# Altium footprint library CustomizedLib.PcbLib: 19 footprints (part 1 of 2)
Each footprint in its own frame and in the unit in brackets; x right, y up, seen from the top. Pads: shape width x height; smd on the part's side, far side on the other; paste and mask are expansions set on the pad; w line width, h text height; cw(c..) or ccw(c..) is an arc to the next point about the centre after c.
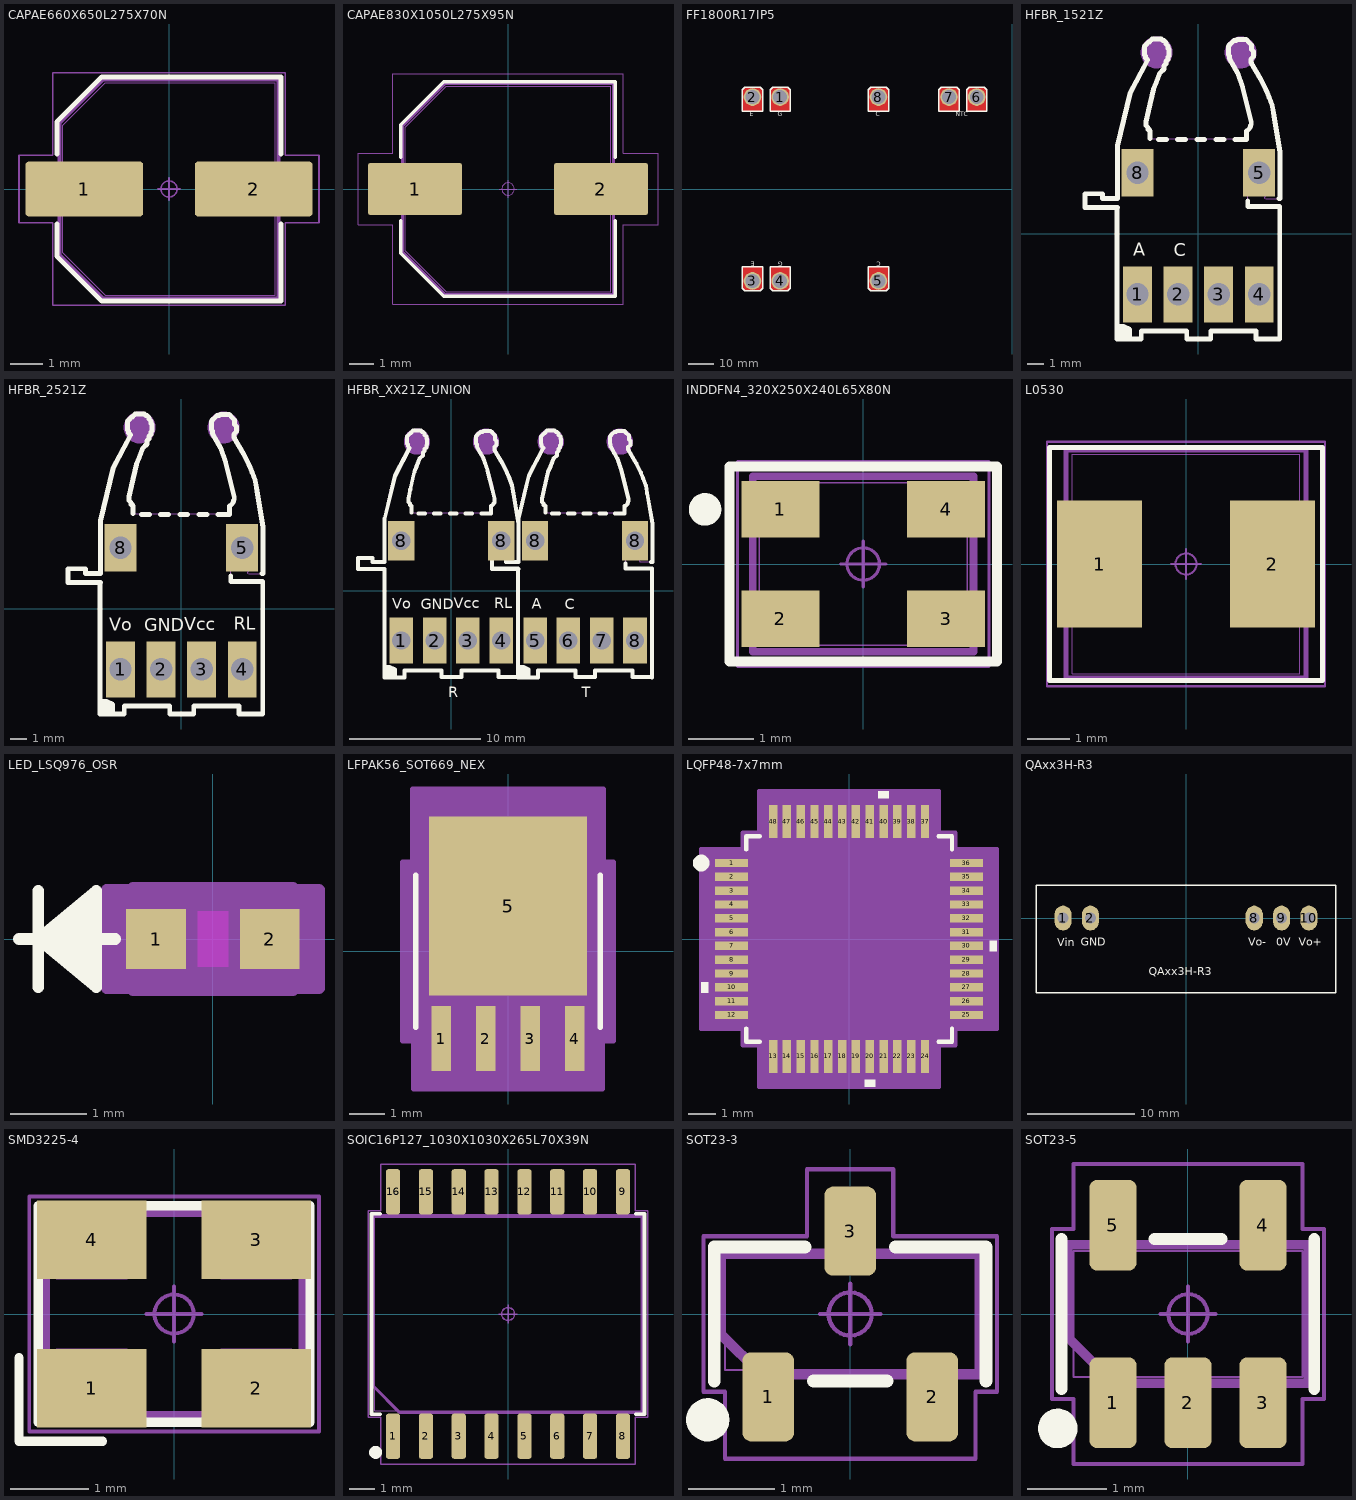
[diagram p0: the footprints below, top view; thin cyan lines are the x and y axes]

## CAPAE660X650L275X70N [mm] "Capacitor, Aluminum Electrolytic; 6.60 mm L X 6.60 mm W X 6.50 mm H body"
height 6.5
pads (2):
  rrect12% 3.65x1.7 smd: 1(-2.625,0) 2(2.625,0)
Top Overlay:
  lines w0.15: -3.475,-1.075 -3.475,-2.085 -2.085,-3.475 3.475,-3.475 3.475,-1.075 ; -3.475,1.075 -3.475,2.085 -2.085,3.475 3.475,3.475 3.475,1.075
Mechanical 9:
  lines w0.12: -3.4,-2.04 -2.04,-3.4 3.4,-3.4 3.4,3.4 -2.04,3.4 -3.4,2.04 -3.4,-2.04
Mechanical 15:
  lines w0.05: -4.65,-1.05 -4.65,1.05 -3.6,1.05 -3.6,3.6 3.6,3.6 3.6,1.05 4.65,1.05 4.65,-1.05 3.6,-1.05 3.6,-3.6 -3.6,-3.6 -3.6,-1.05 -4.65,-1.05
Mechanical 17:
  circle w0.05: c0,0 r0.25
  lines w0.05: -0.35,0 0.35,0 ; 0,-0.35 0,0.35
Mechanical 21:
  lines w0.025: -3.65,-0.35 -0.9,-0.35 -0.9,0.35 -3.65,0.35 -3.65,-0.35 ; -3.3,-1.98 -1.98,-3.3 3.3,-3.3 3.3,3.3 -1.98,3.3 -3.3,1.98 -3.3,-1.98 ; 0.9,-0.35 0.9,0.35 3.65,0.35 3.65,-0.35 0.9,-0.35
3D body "CAPAE660X650L275X70.STEP": height 6.5, standoff 0, extent -3.65,-3.3 3.65,3.3

## CAPAE830X1050L275X95N [mm] "Capacitor, Aluminum Electrolytic; 8.30 mm L X 8.30 mm W X 10.50 mm H body"
height 10.5
pads (2):
  rrect10% 3.8x2.1 smd: 1(-3.75,0) 2(3.75,0)
Top Overlay:
  lines w0.15: -4.325,-1.275 -4.325,-2.595 -2.595,-4.325 4.325,-4.325 4.325,-1.275 ; -4.325,1.275 -4.325,2.595 -2.595,4.325 4.325,4.325 4.325,1.275
Mechanical 9:
  lines w0.12: -4.25,-2.55 -4.25,2.55 -2.55,4.25 4.25,4.25 4.25,-4.25 -2.55,-4.25 -4.25,-2.55
Mechanical 15:
  lines w0.05: -6.05,-1.45 -4.65,-1.45 -4.65,-4.65 4.65,-4.65 4.65,-1.45 6.05,-1.45 6.05,1.45 4.65,1.45 4.65,4.65 -4.65,4.65 -4.65,1.45 -6.05,1.45 -6.05,-1.45
Mechanical 17:
  circle w0.05: c0,0 r0.25
  lines w0.05: -0.35,0 0.35,0 ; 0,-0.35 0,0.35
Mechanical 21:
  lines w0.025: -4.65,-0.475 -4.65,0.475 -1.9,0.475 -1.9,-0.475 -4.65,-0.475 ; -4.15,-2.49 -4.15,2.49 -2.49,4.15 4.15,4.15 4.15,-4.15 -2.49,-4.15 -4.15,-2.49 ; 1.9,-0.475 4.65,-0.475 4.65,0.475 1.9,0.475 1.9,-0.475
3D body "CAPAE830X1050L275X95.STEP": height 10.5, standoff 0, extent -4.7,-4.15 4.7,4.15

## FF1800R17IP5 [mm]
pads (8):
  round 7 hole 5.5: 1(-92,36.5) 2(-103,36.5) 3(-103,-36.5) 4(-92,-36.5) 5(-53,-36.5) 6(-14,36.5) 7(-25,36.5) 8(-53,36.5)
Top Layer:
  region: -49,39.386 -49,30.9 -57,30.9 -57,39.386 -56,40.386 -50,40.386
  region: -88,39.386 -88,30.9 -96,30.9 -96,39.386 -95,40.386 -89,40.386
  region: -99,-39.386 -99,-30.9 -107,-30.9 -107,-39.386 -106,-40.386 -100,-40.386
  region: -88,-39.386 -88,-30.9 -96,-30.9 -96,-39.386 -95,-40.386 -89,-40.386
  region: -49,-39.386 -49,-30.9 -57,-30.9 -57,-39.386 -56,-40.386 -50,-40.386
  region: -10,39.386 -10,30.9 -18,30.9 -18,39.386 -17,40.386 -11,40.386
  region: -21,39.386 -21,30.9 -29,30.9 -29,39.386 -28,40.386 -22,40.386
  region: -99,39.386 -99,30.9 -107,30.9 -107,39.386 -106,40.386 -100,40.386
Bottom Layer:
  region: -99,-39.386 -99,-30.9 -107,-30.9 -107,-39.386 -106,-40.386 -100,-40.386
  region: -88,-39.386 -88,-30.9 -96,-30.9 -96,-39.386 -95,-40.386 -89,-40.386
  region: -49,-39.386 -49,-30.9 -57,-30.9 -57,-39.386 -56,-40.386 -50,-40.386
  region: -10,39.386 -10,30.9 -18,30.9 -18,39.386 -17,40.386 -11,40.386
  region: -21,39.386 -21,30.9 -29,30.9 -29,39.386 -28,40.386 -22,40.386
  region: -49,39.386 -49,30.9 -57,30.9 -57,39.386 -56,40.386 -50,40.386
  region: -99,39.386 -99,30.9 -107,30.9 -107,39.386 -106,40.386 -100,40.386
  region: -88,39.386 -88,30.9 -96,30.9 -96,39.386 -95,40.386 -89,40.386
Top Overlay:
  lines w0.508: -107,-39.4 -107,-30.9 -99,-30.9 -99,-39.4 -100,-40.4 -106,-40.4 -107,-39.4 ; -107,30.9 -107,39.4 -106,40.4 -100,40.4 -99,39.4 -99,30.9 -107,30.9 ; -96,-39.4 -96,-30.9 -88,-30.9 -88,-39.4 -89,-40.4 -95,-40.4 -96,-39.4 ; -96,30.9 -96,39.4 -95,40.4 -89,40.4 -88,39.4 -88,30.9 -96,30.9 ; -57,-39.4 -57,-30.9 -49,-30.9 -49,-39.4 -50,-40.4 -56,-40.4 -57,-39.4 ; -57,30.9 -57,39.4 -56,40.4 -50,40.4 -49,39.4 -49,30.9 -57,30.9 ; -29,30.9 -29,39.4 -28,40.4 -22,40.4 -21,39.4 -21,30.9 -29,30.9 ; -18,30.9 -18,39.4 -17,40.4 -11,40.4 -10,39.4 -10,30.9 -18,30.9
  text "NTC" at -22.311,28.305 h3.05
  text "C" at -54.001,28.305 h3.05
  text "E" at -104.001,28.305 h3.05
  text "G" at -93.001,28.305 h3.05
  text "C" at -51.999,-28.305 h3.05
  text "G" at -90.999,-28.305 h3.05
  text "E" at -101.999,-28.305 h3.05
Bottom Overlay:
  lines w0.508: -44.947,-16.897 -125,-16.897 -125,16.896 -5.953,16.896 ; -110.031,-42.738 -110.031,-25.367 -84.969,-25.367 -84.969,-42.738 -110.031,-42.738 ; -110.031,25.367 -110.031,42.738 -84.969,42.738 -84.969,25.367 -110.031,25.367 ; -60.037,-42.738 -60.037,-25.367 -45.963,-25.367 -45.963,-42.738 -60.037,-42.738 ; -60.037,25.367 -60.037,42.738 -45.963,42.738 -45.963,25.367 -60.037,25.367 ; -32.031,25.367 -6.969,25.367 -6.969,42.738 -32.031,42.738 -32.031,25.367
Bottom Solder:
  region: -99,-39.386 -99,-30.9 -107,-30.9 -107,-39.386 -106,-40.386 -100,-40.386
  region: -88,-39.386 -88,-30.9 -96,-30.9 -96,-39.386 -95,-40.386 -89,-40.386
  region: -49,-39.386 -49,-30.9 -57,-30.9 -57,-39.386 -56,-40.386 -50,-40.386
  region: -10,39.386 -10,30.9 -18,30.9 -18,39.386 -17,40.386 -11,40.386
  region: -21,39.386 -21,30.9 -29,30.9 -29,39.386 -28,40.386 -22,40.386
  region: -49,39.386 -49,30.9 -57,30.9 -57,39.386 -56,40.386 -50,40.386
  region: -88,39.386 -88,30.9 -96,30.9 -96,39.386 -95,40.386 -89,40.386
  region: -99,39.386 -99,30.9 -107,30.9 -107,39.386 -106,40.386 -100,40.386
3D body "infineon-primepack-3plus-3d-model-pcbdesigndata-en.stp": height 12.15, standoff -26.1, extent -124.968,-45.262 125.08,43.738

## HFBR_1521Z [mm]
pads (6):
  rect 1.801x3.5 hole 1.402: 1(-3.81,-3.81) 2(-1.27,-3.81) 3(1.27,-3.81) 4(3.81,-3.81)
  rect 1.999x3 hole 1.402: 5(3.81,3.81) 8(-3.81,3.81)
Top Overlay:
  lines w0.305: -5.1,-5.809 -4.699,-5.809 -4.3,-6.01 -4.3,-6.609 ; -5.1,1.635 -5.1,0.79 -5.1,-2.108 -5.1,-5.309 -5.1,-6.609 -3.575,-6.609 -3.575,-6.105 -0.726,-6.105 -0.726,-6.604 0.775,-6.604 0.775,-6.108 3.621,-6.108 3.621,-6.603 5.1,-6.603 ; -5.072,1.635 -7.104,1.635 -7.108,1.639 -7.108,2.494 -6.015,2.494 -6.015,2.194 -5.071,2.194 -5.071,5.496 -4.29,8.75 -3.185,10.862 -3.185,10.886 -3.307,11.008 -3.307,11.126 -3.377,11.196 -3.377,11.398 -3.377,11.619 -3.377,11.733 -3.293,11.817 -3.293,11.821 -3.1,12.014 -3.068,12.014 -2.898,12.184 -2.535,12.184 -2.314,12.184 -2.22,12.09 -2.15,12.09 -2.023,11.963 -2.023,11.869 -1.891,11.737 -1.891,11.609 -1.835,11.553 -1.835,11.299 -1.835,11.134 -1.905,11.064 -1.905,10.918 -2.032,10.791 -2.032,10.636 -2.154,10.514 -2.154,10.312 -2.413,10.053 -2.64,9.459 -2.818,9.034 -3.125,7.706 -3.274,6.996 -3.274,6.789 -3.274,6.755 -3.154,6.635 -3.154,6.522 -3.094,6.522 -3.02,6.448 -3.02,5.954 ; -4.9,-6.51 -4.9,-6.01 ; -4.6,-6.408 -4.6,-6.01 ; -2.504,5.89 -2.004,5.89 ; -1.303,5.89 -0.803,5.89 ; -0.104,5.89 0.396,5.89 ; 1.097,5.89 1.598,5.89 ; 2.299,5.89 2.799,5.89 3.02,5.89 3.02,6.447 3.074,6.447 3.225,6.598 3.225,6.651 3.279,6.705 3.279,6.783 3.315,6.819 3.315,6.968 2.779,9.144 2.463,10.052 2.218,10.48 1.945,10.998 1.945,11.149 1.889,11.205 1.889,11.407 1.889,11.6 1.889,11.741 1.964,11.816 1.964,11.844 2.082,11.962 2.105,11.962 2.246,12.103 2.373,12.103 2.444,12.174 2.768,12.174 3.004,12.174 3.098,12.08 3.098,12.056 3.342,11.812 3.342,11.525 3.45,11.417 3.45,11.177 3.45,11.087 3.29,10.927 3.29,10.739 ; 3.097,2.053 3.097,1.692 5.1,1.692 5.1,0.79 5.1,-2.108 5.1,-5.309 5.1,-6.609 ; 3.342,10.687 3.29,10.739 ; 5.036,2.19 5.125,2.19 5.125,5.09 4.739,7.382 4.632,8.016 4.434,8.534 4.247,8.985 3.908,9.679 3.29,10.739
  text "A" at -4.077,-1.398 h0.8
  text "C" at -1.537,-1.414 h0.8
Mechanical 6:
  circle w1: c2.645,11.353 r0.5
  circle w1: c-2.616,11.354 r0.5
Mechanical 15:
  drawing of 141 lines, arcs and shapes, not listed
3D body "HFBR-2521Z.STEP": height 7.62, standoff -3.81, extent -7.112,-6.528 5.08,12.267

## HFBR_2521Z [mm]
pads (6):
  rect 1.801x3.5 hole 1.402: 1(-3.81,-3.81) 2(-1.27,-3.81) 3(1.27,-3.81) 4(3.81,-3.81)
  rect 1.999x3 hole 1.402: 5(3.81,3.81) 8(-3.81,3.81)
Top Overlay:
  lines w0.305: -5.1,-5.809 -4.699,-5.809 -4.3,-6.01 -4.3,-6.609 ; -5.1,1.635 -5.1,0.79 -5.1,-2.108 -5.1,-5.309 -5.1,-6.609 -3.575,-6.609 -3.575,-6.105 -0.726,-6.105 -0.726,-6.604 0.775,-6.604 0.775,-6.108 3.621,-6.108 3.621,-6.603 5.1,-6.603 ; -5.072,1.635 -7.104,1.635 -7.108,1.639 -7.108,2.494 -6.015,2.494 -6.015,2.194 -5.071,2.194 -5.071,5.496 -4.29,8.75 -3.185,10.862 -3.185,10.886 -3.307,11.008 -3.307,11.126 -3.377,11.196 -3.377,11.398 -3.377,11.619 -3.377,11.733 -3.293,11.817 -3.293,11.821 -3.1,12.014 -3.068,12.014 -2.898,12.184 -2.535,12.184 -2.314,12.184 -2.22,12.09 -2.15,12.09 -2.023,11.963 -2.023,11.869 -1.891,11.737 -1.891,11.609 -1.835,11.553 -1.835,11.299 -1.835,11.134 -1.905,11.064 -1.905,10.918 -2.032,10.791 -2.032,10.636 -2.154,10.514 -2.154,10.312 -2.413,10.053 -2.64,9.459 -2.818,9.034 -3.125,7.706 -3.274,6.996 -3.274,6.789 -3.274,6.755 -3.154,6.635 -3.154,6.522 -3.094,6.522 -3.02,6.448 -3.02,5.954 ; -4.9,-6.51 -4.9,-6.01 ; -4.6,-6.408 -4.6,-6.01 ; -2.504,5.89 -2.004,5.89 ; -1.303,5.89 -0.803,5.89 ; -0.104,5.89 0.396,5.89 ; 1.097,5.89 1.598,5.89 ; 2.299,5.89 2.799,5.89 3.02,5.89 3.02,6.447 3.074,6.447 3.225,6.598 3.225,6.651 3.279,6.705 3.279,6.783 3.315,6.819 3.315,6.968 2.779,9.144 2.463,10.052 2.218,10.48 1.945,10.998 1.945,11.149 1.889,11.205 1.889,11.407 1.889,11.6 1.889,11.741 1.964,11.816 1.964,11.844 2.082,11.962 2.105,11.962 2.246,12.103 2.373,12.103 2.444,12.174 2.768,12.174 3.004,12.174 3.098,12.08 3.098,12.056 3.342,11.812 3.342,11.525 3.45,11.417 3.45,11.177 3.45,11.087 3.29,10.927 3.29,10.739 ; 3.097,2.053 3.097,1.692 5.1,1.692 5.1,0.79 5.1,-2.108 5.1,-5.309 5.1,-6.609 ; 3.342,10.687 3.29,10.739 ; 5.036,2.19 5.125,2.19 5.125,5.09 4.739,7.382 4.632,8.016 4.434,8.534 4.247,8.985 3.908,9.679 3.29,10.739
  text "Vcc" at 0.176,-1.353 h0.8
  text "RL" at 3.292,-1.335 h0.8
  text "GND" at -2.324,-1.414 h0.8
  text "Vo" at -4.507,-1.398 h0.8
Mechanical 6:
  circle w1: c-2.616,11.354 r0.5
  circle w1: c2.645,11.353 r0.5
Mechanical 15:
  drawing of 141 lines, arcs and shapes, not listed
3D body "HFBR-2521Z.STEP": height 7.62, standoff -3.81, extent -7.112,-6.528 5.08,12.267

## HFBR_XX21Z_UNION [mm]
pads (12):
  rect 1.801x3.5 hole 1.402: 1(-3.81,-3.81) 2(-1.27,-3.81) 3(1.27,-3.81) 4(3.81,-3.81) 5(6.391,-3.81) 6(8.931,-3.81) 7(11.471,-3.81) 8(14.011,-3.81)
  rect 1.999x3 hole 1.402: 8(-3.81,3.81) 8(3.81,3.81) 8(6.391,3.81) 8(14.011,3.81)
Top Overlay:
  drawing of 248 lines, arcs and shapes, not listed
  text "T" at 9.959,-8.145 h0.8
  text "R" at -0.242,-8.145 h0.8
  text "Vcc" at 0.176,-1.353 h0.8
  text "RL" at 3.292,-1.335 h0.8
  text "GND" at -2.324,-1.414 h0.8
  text "Vo" at -4.507,-1.398 h0.8
  text "A" at 6.124,-1.398 h0.8
  text "C" at 8.664,-1.414 h0.8
Mechanical 6:
  circle w1: c-2.616,11.354 r0.5
  circle w1: c2.645,11.353 r0.5
  circle w1: c12.846,11.353 r0.5
  circle w1: c7.585,11.354 r0.5
Mechanical 15:
  drawing of 282 lines, arcs and shapes, not listed
3D body "HFBR-2521Z.STEP": height 7.62, standoff -3.81, extent -7.112,-6.528 5.08,12.267
3D body "HFBR-2521Z.STEP": height 7.62, standoff -3.81, extent 3.089,-6.528 15.281,12.267

## INDDFN4_320X250X240L65X80N [mm] "Inductor, Dual Flat No-Lead (DFN) 4 pins, 2.55 mm pitch; 3.20 mm L X 2.50 mm W X 2.40 mm H body"
height 2.4
pads (4):
  rect 1.2x0.87 smd: 1(-1.275,0.841) 2(-1.275,-0.841) 3(1.275,-0.841) 4(1.275,0.841)
Top Overlay:
  circle w0.25: c-2.435,0.841 r0.125
  lines w0.15: -2.06,-1.501 -2.06,1.501 2.06,1.501 2.06,-1.501 -2.06,-1.501
Mechanical 9:
  lines w0.12: -1.7,-1.35 -1.7,1.35 1.7,1.35 1.7,-1.35 -1.7,-1.35
Mechanical 15:
  lines w0.05: -1.935,-1.576 1.935,-1.576 1.935,1.576 -1.935,1.576 -1.935,-1.576
Mechanical 17:
  circle w0.05: c0,0 r0.25
  lines w0.05: -0.35,0 0.35,0 ; 0,-0.35 0,0.35
Mechanical 21:
  lines w0.025: -1.6,-1.25 -0.95,-1.25 -0.95,-0.45 -1.6,-0.45 -1.6,-1.25 ; -1.6,-1.25 -1.6,1.25 ; -1.6,-1.25 1.6,-1.25 ; -1.6,1.25 -1.6,0.45 -0.95,0.45 -0.95,1.25 -1.6,1.25 ; -1.6,1.25 1.6,1.25 ; 1.6,-1.25 1.6,-0.45 0.95,-0.45 0.95,-1.25 1.6,-1.25 ; 1.6,-1.25 1.6,1.25 ; 1.6,1.25 0.95,1.25 0.95,0.45 1.6,0.45 1.6,1.25
3D body "INDDFN4_320X250X240L65X80.STEP": height 2.4, standoff 0, extent -1.6,-1.25 1.6,1.25

## L0530 [mm] "Diode, Dual Flat No-Lead, 2 pin; 1.00 mm L X 0.60 mm W X 0.50 mm H body"
height 3
pads (2):
  rect 2.012x3.015 smd: 1(-2.05,0) 2(2.05,0)
Top Overlay:
  lines w0.12: -3.236,-2.76 -3.236,2.76 3.236,2.76 3.236,-2.76 -3.236,-2.76
Mechanical 11:
  lines w0.12: -2.85,-2.7 -2.85,2.7 2.85,2.7 2.85,-2.7 -2.85,-2.7
Mechanical 12:
  lines w0.025: -3,-1.4 -1.1,-1.4 -1.1,1.4 -3,1.4 -3,-1.4 ; -2.7,-2.6 -2.7,2.6 2.7,2.6 2.7,-2.6 -2.7,-2.6 ; 1.1,-1.4 1.1,1.4 3,1.4 3,-1.4 1.1,-1.4
Mechanical 15:
  circle w0.05: c0,0 r0.25
  lines w0.05: -0.35,0 0.35,0 ; 0,-0.35 0,0.35 ; -3.296,-2.9 3.296,-2.9 3.296,2.9 -3.296,2.9 -3.296,-2.9
3D body "INDDFN2_540X520X300L190X280.STEP": height 3, standoff 0, extent -3,-2.6 3,2.6

## LED_LSQ976_OSR [mil]
pads (2):
  rect 31x31 smd paste+0 mask+0: 1(-29.5,0) 2(29.5,0)
Top Layer keep-out:
  region: -8,-14.5 -8,14.5 8,14.5 8,-14.5
Top Overlay:
  lines w6: -100.63,0 -50.63,0 ; -90.63,-25 -90.63,25 ; -60.63,-20 -90.63,0 ; -60.63,-15 -90.63,0 ; -60.63,-10 -90.63,0 ; -60.63,-5 -90.63,0 ; -60.63,5 -90.63,0 ; -60.63,10 -90.63,0 ; -60.63,15 -90.63,0 ; -60.63,20 -90.63,0 ; -90.63,0 -60.63,25 -60.63,-25 -90.63,0
Mechanical 13:
  lines w1: -100.63,0 -50.63,0 ; -90.63,-25 -90.63,25 ; -60.63,-20 -90.63,0 ; -60.63,-15 -90.63,0 ; -60.63,-10 -90.63,0 ; -60.63,-5 -90.63,0 ; -60.63,5 -90.63,0 ; -60.63,10 -90.63,0 ; -60.63,15 -90.63,0 ; -60.63,20 -90.63,0 ; -90.63,0 -60.63,25 -60.63,-25 -90.63,0 ; -31.5,-16.5 -31.5,16.5 31.5,16.5 31.5,-16.5 -31.5,-16.5
Mechanical 15:
  region: -41.5,-25.5 -55,-25.5 -55,25.5 -41.5,25.5 -41.5,26.5 41.5,26.5 41.5,25.5 55,25.5 55,-25.5 41.5,-25.5 41.5,-26.5 -41.5,-26.5
  lines w6: -55,-25.5 -41.5,-25.5 -41.5,-26.5 41.5,-26.5 41.5,-25.5 55,-25.5 55,25.5 41.5,25.5 41.5,26.5 -41.5,26.5 -41.5,25.5 -55,25.5 -55,-25.5
3D body "LED_LSQ976_OSR.step": height 32.99, standoff 0, extent -31.5,-16.61 31.5,16.61

## LFPAK56_SOT669_NEX [mil]
pads (5):
  rect 22x73 smd paste+0 mask+0: 1(-75,-98) 2(-25,-98) 3(25,-98) 4(75,-98)
  rect 178x201 smd paste+0 mask+0: 5(0,51)
Top Overlay:
  lines w6: -103.5,-85.5 -103.5,85.5 ; 103.5,-85.5 103.5,85.5
Mechanical 13:
  lines w1: -98.5,-80.5 -98.5,80.5 98.5,80.5 98.5,-80.5 -98.5,-80.5 ; -85,-112.5 -65,-112.5 -65,-80.5 -85,-80.5 -85,-112.5 ; -35,-112.5 -15,-112.5 -15,-80.5 -35,-80.5 -35,-112.5 ; 15,-112.5 35,-112.5 35,-80.5 15,-80.5 15,-112.5 ; 65,-112.5 85,-112.5 85,-80.5 65,-80.5 65,-112.5
Mechanical 15:
  region: -118.5,-100.5 -118.5,100.5 -107,100.5 -107,182.5 107,182.5 107,100.5 118.5,100.5 118.5,-100.5 106,-100.5 106,-154.5 -106,-154.5 -106,-100.5
  lines w6: -118.5,-100.5 -106,-100.5 -106,-154.5 106,-154.5 106,-100.5 118.5,-100.5 118.5,100.5 107,100.5 107,182.5 -107,182.5 -107,100.5 -118.5,100.5 -118.5,-100.5
3D body "LFPAK56_SOT669_NEX.step": height 43.11, standoff -2.01, extent -98.5,-112.52 98.5,131.5

## LQFP48-7x7mm [mm]
pads (48):
  rect 1.194x0.305 smd paste+0 mask+0: 1(-4.25,2.75) 2(-4.25,2.25) 3(-4.25,1.75) 4(-4.25,1.25) 5(-4.25,0.75) 6(-4.25,0.25) 7(-4.25,-0.25) 8(-4.25,-0.75) 9(-4.25,-1.25) 10(-4.25,-1.75) 11(-4.25,-2.25) 12(-4.25,-2.75) 25(4.25,-2.75) 26(4.25,-2.25) 27(4.25,-1.75) 28(4.25,-1.25) 29(4.25,-0.75) 30(4.25,-0.25) 31(4.25,0.25) 32(4.25,0.75) 33(4.25,1.25) 34(4.25,1.75) 35(4.25,2.25) 36(4.25,2.75)
  rect 0.305x1.194 smd paste+0 mask+0: 13(-2.75,-4.25) 14(-2.25,-4.25) 15(-1.75,-4.25) 16(-1.25,-4.25) 17(-0.75,-4.25) 18(-0.25,-4.25) 19(0.25,-4.25) 20(0.75,-4.25) 21(1.25,-4.25) 22(1.75,-4.25) 23(2.25,-4.25) 24(2.75,-4.25) 37(2.75,4.25) 38(2.25,4.25) 39(1.75,4.25) 40(1.25,4.25) 41(0.75,4.25) 42(0.25,4.25) 43(-0.25,4.25) 44(-0.75,4.25) 45(-1.25,4.25) 46(-1.75,4.25) 47(-2.25,4.25) 48(-2.75,4.25)
Top Overlay:
  circle w0.305: c-5.351,2.75 r0.152
  region: -5.101,-1.559 -5.355,-1.559 -5.355,-1.94 -5.101,-1.94
  region: 0.941,-5.101 0.56,-5.101 0.56,-5.355 0.941,-5.355
  region: 5.101,-0.059 5.355,-0.059 5.355,-0.44 5.101,-0.44
  region: 1.441,5.101 1.06,5.101 1.06,5.355 1.441,5.355
  lines w0.152: -3.721,-3.235 -3.721,-3.721 -3.235,-3.721 ; -3.721,3.235 -3.721,3.721 -3.235,3.721 ; 3.235,-3.721 3.721,-3.721 3.721,-3.235 ; 3.235,3.721 3.721,3.721 3.721,3.235
Mechanical 13:
  circle w0: c-3.018,2.75 r0.076
  lines w0.025: -3.594,2.324 -2.324,3.594 ; -3.594,-3.594 3.594,-3.594 3.594,3.594 -3.594,3.594 -3.594,-3.594
Mechanical 15:
  region: -3.258,-3.848 -3.848,-3.848 -3.848,-3.258 -5.355,-3.258 -5.355,3.258 -3.848,3.258 -3.848,3.848 -3.258,3.848 -3.258,5.355 3.258,5.355 3.258,3.848 3.848,3.848 3.848,3.258 5.355,3.258 5.355,-3.258 3.848,-3.258 3.848,-3.848 3.258,-3.848 3.258,-5.355 -3.258,-5.355
  lines w0.152: -5.355,-3.258 -3.848,-3.258 -3.848,-3.848 -3.258,-3.848 -3.258,-5.355 3.258,-5.355 3.258,-3.848 3.848,-3.848 3.848,-3.258 5.355,-3.258 5.355,3.258 3.848,3.258 3.848,3.848 3.258,3.848 3.258,5.355 -3.258,5.355 -3.258,3.848 -3.848,3.848 -3.848,3.258 -5.355,3.258 -5.355,-3.258
3D body "LQFP48-7x7mm.step": height 1.6, standoff 0, extent -4.497,-4.497 4.497,4.497

## QAxx3H-R3 [mm] "(V1)"
pads (5):
  oval 1.6x2.3 hole 1: 1(-11.43,0) 2(-8.89,0) 8(6.35,0) 9(8.89,0) 10(11.43,0)
Top Overlay:
  lines w0.127: -13.95,-6.95 -13.95,3.05 13.95,3.05 13.95,-6.95 -13.95,-6.95
  text "Vo+" at 10.468,-2.581 h0.76
  text "0V" at 8.398,-2.581 h0.76
  text "Vo-" at 5.792,-2.581 h0.76
  text "GND" at -9.803,-2.581 h0.76
  text "QAxx3H-R3" at -3.485,-5.332 h0.76
  text "Vin" at -11.993,-2.617 h0.76
3D body "QAxxxHx-R3.stp": height 12.88, standoff -3.22, extent -13.703,-6.812 13.697,2.688

## SMD3225-4 [mm] "Diode, Dual Flat No-Lead, 0.75 mm Pitch, 4 pin; 1.20 mm L X 0.775 mm W X 0.40 mm H body"
height 0.9
pads (4):
  rect 1.4x1 smd: 1(-1.05,-0.95) 2(1.05,-0.95) 3(1.05,0.95) 4(-1.05,0.95)
Top Overlay:
  lines w0.12: -1.981,-0.558 -1.981,-1.625 -0.914,-1.625 ; -1.735,-1.38 -1.735,1.38 1.735,1.38 1.735,-1.38 -1.735,-1.38
Mechanical 11:
  lines w0.12: -1.65,-1.3 -1.65,1.3 1.65,1.3 1.65,-1.3 -1.65,-1.3
Mechanical 12:
  lines w0.025: -1.6,-1.25 -1.6,1.25 1.6,1.25 1.6,-1.25 -1.6,-1.25 ; -1.5,-1.15 -0.6,-1.15 -0.6,-0.45 -1.5,-0.45 -1.5,-1.15 ; -1.5,0.45 -0.6,0.45 -0.6,1.15 -1.5,1.15 -1.5,0.45 ; 0.6,-1.15 0.6,-0.45 1.5,-0.45 1.5,-1.15 0.6,-1.15 ; 0.6,0.45 0.6,1.15 1.5,1.15 1.5,0.45 0.6,0.45
Mechanical 15:
  circle w0.05: c0,0 r0.25
  lines w0.05: -0.35,0 0.35,0 ; 0,-0.35 0,0.35 ; -1.85,-1.5 1.85,-1.5 1.85,1.5 -1.85,1.5 -1.85,-1.5
3D body "SMD3225-4.STEP": height 0.9, standoff 0, extent -1.6,-1.25 1.6,1.25

## SOIC16P127_1030X1030X265L70X39N [mm] "Small Outline IC (SOIC), 1.27 mm pitch; 16 pin, 10.30 mm L X 7.50 mm W X 2.65 mm H body"
height 2.65
pads (16):
  rrect36% 0.55x1.75 smd: 1(-4.445,-4.725) 2(-3.175,-4.725) 3(-1.905,-4.725) 4(-0.635,-4.725) 5(0.635,-4.725) 6(1.905,-4.725) 7(3.175,-4.725) 8(4.445,-4.725) 9(4.445,4.725) 10(3.175,4.725) 11(1.905,4.725) 12(0.635,4.725) 13(-0.635,4.725) 14(-1.905,4.725) 15(-3.175,4.725) 16(-4.445,4.725)
Top Overlay:
  circle w0.25: c-5.12,-5.35 r0.125
  lines w0.15: -4.945,-3.875 -5.275,-3.875 -5.275,3.875 -4.945,3.875 ; 4.945,-3.875 5.275,-3.875 5.275,3.875 4.945,3.875
Mechanical 9:
  lines w0.12: -5.2,-2.8 -4.2,-3.8 5.2,-3.8 5.2,3.8 -5.2,3.8 -5.2,-2.8
  text ".Designator" at -4.502,-0.452 h2
Mechanical 11:
  text ".Designator" at -2.705,-0.272 h1.2
Mechanical 15:
  lines w0.05: -5.4,-4 -5.4,4 -4.92,4 -4.92,5.8 4.92,5.8 4.92,4 5.4,4 5.4,-4 4.92,-4 4.92,-5.8 -4.92,-5.8 -4.92,-4 -5.4,-4
Mechanical 17:
  circle w0.05: c0,0 r0.25
  lines w0.05: -0.35,0 0.35,0 ; 0,-0.35 0,0.35
Mechanical 21:
  lines w0.025: -5.15,-3.75 -5.15,3.75 5.15,3.75 5.15,-3.75 -5.15,-3.75 ; -4.64,-5.15 -4.25,-5.15 -4.25,-4.45 -4.64,-4.45 -4.64,-5.15 ; -4.64,4.45 -4.25,4.45 -4.25,5.15 -4.64,5.15 -4.64,4.45 ; -3.37,-5.15 -2.98,-5.15 -2.98,-4.45 -3.37,-4.45 -3.37,-5.15 ; -3.37,4.45 -2.98,4.45 -2.98,5.15 -3.37,5.15 -3.37,4.45 ; -2.1,-5.15 -1.71,-5.15 -1.71,-4.45 -2.1,-4.45 -2.1,-5.15 ; -2.1,4.45 -1.71,4.45 -1.71,5.15 -2.1,5.15 -2.1,4.45 ; -0.83,-5.15 -0.44,-5.15 -0.44,-4.45 -0.83,-4.45 -0.83,-5.15 ; -0.83,4.45 -0.44,4.45 -0.44,5.15 -0.83,5.15 -0.83,4.45 ; 0.44,-5.15 0.83,-5.15 0.83,-4.45 0.44,-4.45 0.44,-5.15 ; 0.44,4.45 0.83,4.45 0.83,5.15 0.44,5.15 0.44,4.45 ; 1.71,-5.15 2.1,-5.15 2.1,-4.45 1.71,-4.45 1.71,-5.15 ; 1.71,4.45 2.1,4.45 2.1,5.15 1.71,5.15 1.71,4.45 ; 2.98,-5.15 3.37,-5.15 3.37,-4.45 2.98,-4.45 2.98,-5.15 ; 2.98,4.45 3.37,4.45 3.37,5.15 2.98,5.15 2.98,4.45 ; 4.25,-5.15 4.64,-5.15 4.64,-4.45 4.25,-4.45 4.25,-5.15 ; 4.25,4.45 4.64,4.45 4.64,5.15 4.25,5.15 4.25,4.45
3D body "SOIC16P127_1030X1030X265L70X39.STEP": height 2.65, standoff 0, extent -5.15,-5.15 5.15,5.15

## SOT23-3 [mm] "Small Outline Transistor, SOT-23 Type, 0.95 mm pitch; 3 pin, 2.90 mm L X 1.30 mm W X 1.15 mm H body"
height 1.15
pads (3):
  rrect33% 0.6x1.03 smd: 1(-0.95,-0.96) 2(0.95,-0.96) 3(0,0.96)
Top Overlay:
  circle w0.25: c-1.65,-1.225 r0.125
  lines w0.15: -1.575,-0.775 -1.575,0.775 -0.525,0.775 ; -0.425,-0.775 0.425,-0.775 ; 0.525,0.775 1.575,0.775 1.575,-0.775
Mechanical 9:
  lines w0.12: -1.5,-0.233 -1.033,-0.7 1.5,-0.7 1.5,0.7 -1.5,0.7 -1.5,-0.233
Mechanical 15:
  lines w0.05: -1.7,-0.9 -1.7,0.9 -0.5,0.9 -0.5,1.675 0.5,1.675 0.5,0.9 1.7,0.9 1.7,-0.9 1.45,-0.9 1.45,-1.675 -1.45,-1.675 -1.45,-0.9 -1.7,-0.9
Mechanical 17:
  circle w0.05: c0,0 r0.25
  lines w0.05: -0.35,0 0.35,0 ; 0,-0.35 0,0.35
Mechanical 21:
  lines w0.025: -1.45,-0.65 -1.45,0.65 1.45,0.65 1.45,-0.65 -1.45,-0.65 ; -1.15,-1.2 -0.75,-1.2 -0.75,-0.8 -1.15,-0.8 -1.15,-1.2 ; -0.2,0.8 0.2,0.8 0.2,1.2 -0.2,1.2 -0.2,0.8 ; 0.75,-1.2 1.15,-1.2 1.15,-0.8 0.75,-0.8 0.75,-1.2
3D body "SOT23-3P95_290X240X115L40X40.STEP": height 1.15, standoff 0, extent -1.45,-1.2 1.45,1.2

## SOT23-5 [mm] "Small Outline Transistor, SOT-23 Type, 0.95 mm pitch; 5 pin, 2.90 mm L X 1.60 mm W X 1.45 mm H body"
height 1.45
pads (5):
  rrect33% 0.6x1.15 smd: 1(-0.95,-1.125) 2(0,-1.125) 3(0.95,-1.125) 4(0.95,1.125) 5(-0.95,1.125)
Top Overlay:
  circle w0.25: c-1.65,-1.45 r0.125
  lines w0.15: -1.6,-0.95 -1.6,0.95 ; -0.425,0.95 0.425,0.95 ; 1.6,-0.95 1.6,0.95
Mechanical 9:
  lines w0.12: -1.525,-0.292 -0.942,-0.875 1.525,-0.875 1.525,0.875 -1.525,0.875 -1.525,-0.292
Mechanical 15:
  lines w0.05: -1.725,-1.075 -1.725,1.075 -1.45,1.075 -1.45,1.9 1.45,1.9 1.45,1.075 1.725,1.075 1.725,-1.075 1.45,-1.075 1.45,-1.9 -1.45,-1.9 -1.45,-1.075 -1.725,-1.075
Mechanical 17:
  circle w0.05: c0,0 r0.25
  lines w0.05: -0.35,0 0.35,0 ; 0,-0.35 0,0.35
Mechanical 21:
  lines w0.025: -1.45,-0.8 -1.45,0.8 1.45,0.8 1.45,-0.8 -1.45,-0.8 ; -1.15,-1.4 -0.75,-1.4 -0.75,-0.95 -1.15,-0.95 -1.15,-1.4 ; -1.15,0.95 -0.75,0.95 -0.75,1.4 -1.15,1.4 -1.15,0.95 ; -0.2,-1.4 0.2,-1.4 0.2,-0.95 -0.2,-0.95 -0.2,-1.4 ; 0.75,-1.4 1.15,-1.4 1.15,-0.95 0.75,-0.95 0.75,-1.4 ; 0.75,0.95 1.15,0.95 1.15,1.4 0.75,1.4 0.75,0.95
3D body "SOT23-5P95_290X280X145L45X40.STEP": height 1.45, standoff 0, extent -1.45,-1.4 1.45,1.4